# Altium schematic symbol library MABSS.SchLib: 7 symbols
Pins are listed as number, name and electrical type; pins without a type are passive.

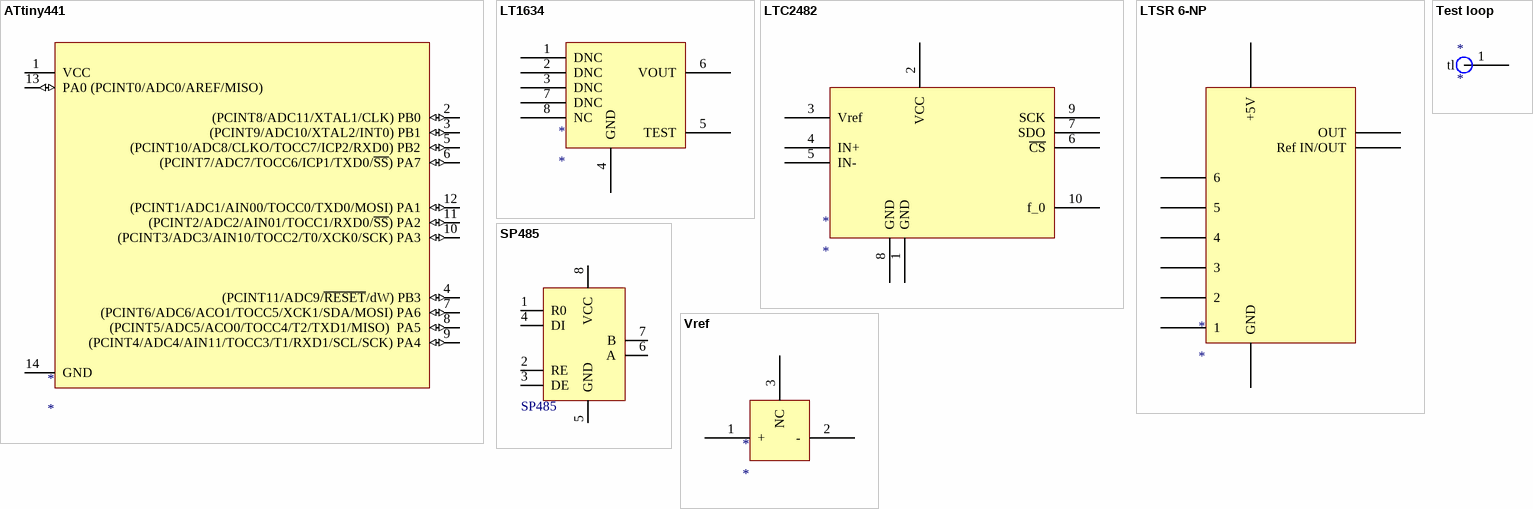
[diagram p0: symbols ATtiny441 to Vref]

## ATtiny441
designator *
footprint 6ST1_L (SOT23, 6-Leads, Body 2.9x1.6mm, Pitch 0.95mm, Lead Span 2.7mm, IPC High Density)
pins: 1 VCC (power), 2 (PCINT8/ADC11/XTAL1/CLK) PB0 (io), 3 (PCINT9/ADC10/XTAL2/INT0) PB1 (io), 4 (PCINT11/ADC9/~{RESET}/dW) PB3 (io), 5 (PCINT10/ADC8/CLKO/TOCC7/ICP2/RXD0) PB2 (io), 6 (PCINT7/ADC7/TOCC6/ICP1/TXD0/~{SS}) PA7 (io), 7 (PCINT6/ADC6/ACO1/TOCC5/XCK1/SDA/MOSI) PA6 (io), 8 (PCINT5/ADC5/ACO0/TOCC4/T2/TXD1/MISO)  PA5 (io), 9 (PCINT4/ADC4/AIN11/TOCC3/T1/RXD1/SCL/SCK) PA4 (io), 10 (PCINT3/ADC3/AIN10/TOCC2/T0/XCK0/SCK) PA3 (io), 11  (PCINT2/ADC2/AIN01/TOCC1/RXD0/~{SS}) PA2 (io), 12  (PCINT1/ADC1/AIN00/TOCC0/TXD0/MOSI) PA1 (io), 13 PA0 (PCINT0/ADC0/AREF/MISO) (io), 14 GND (power)

## LT1634
designator *
footprint 8S1_N (SOIC, 8-Leads, Body 4.9x3.9mm, Pitch 1.27mm, IPC Medium Density)
pins: 1 DNC, 2 DNC, 3 DNC, 4 GND, 5 TEST, 6 VOUT, 7 DNC, 8 NC

## LTC2482
designator *
footprint DFN33 (DD Package  10-Lead Plastic DFN (3mm × 3mm))
pins: 1 GND, 2 VCC, 3 Vref, 4 IN+, 5 IN-, 6 ~{CS}, 7 SDO, 8 GND, 9 SCK, 10 f_0

## LTSR 6-NP
designator *
footprint LTSR 6-NP
pins: 1, 2, 3, 4, 5, 6, +5V, GND, OUT, ref Ref IN/OUT

## SP485
designator SP485  (value not drawn)
footprint 8S1_M (SOIC, 8-Leads, Body 4.9x3.9mm, Pitch 1.27mm, IPC Low Density)
pins: 1 R0, 2 RE, 3 DE, 4 DI, 5 GND, 6 A, 7 B, 8 VCC

## Test loop
designator *
footprint Test loop
pins: 1 tl

## Vref
designator *
pins: 1 +, 2 -, 3 NC